# Altium footprint library LKS034DO_FOC_Motor_05201.PcbLib: 29 footprints (part 2 of 2)
Each footprint in its own frame and in the unit in brackets; x right, y up, seen from the top. Pads: shape width x height; smd on the part's side, far side on the other; paste and mask are expansions set on the pad; w line width, h text height; cw(c..) or ccw(c..) is an arc to the next point about the centre after c.
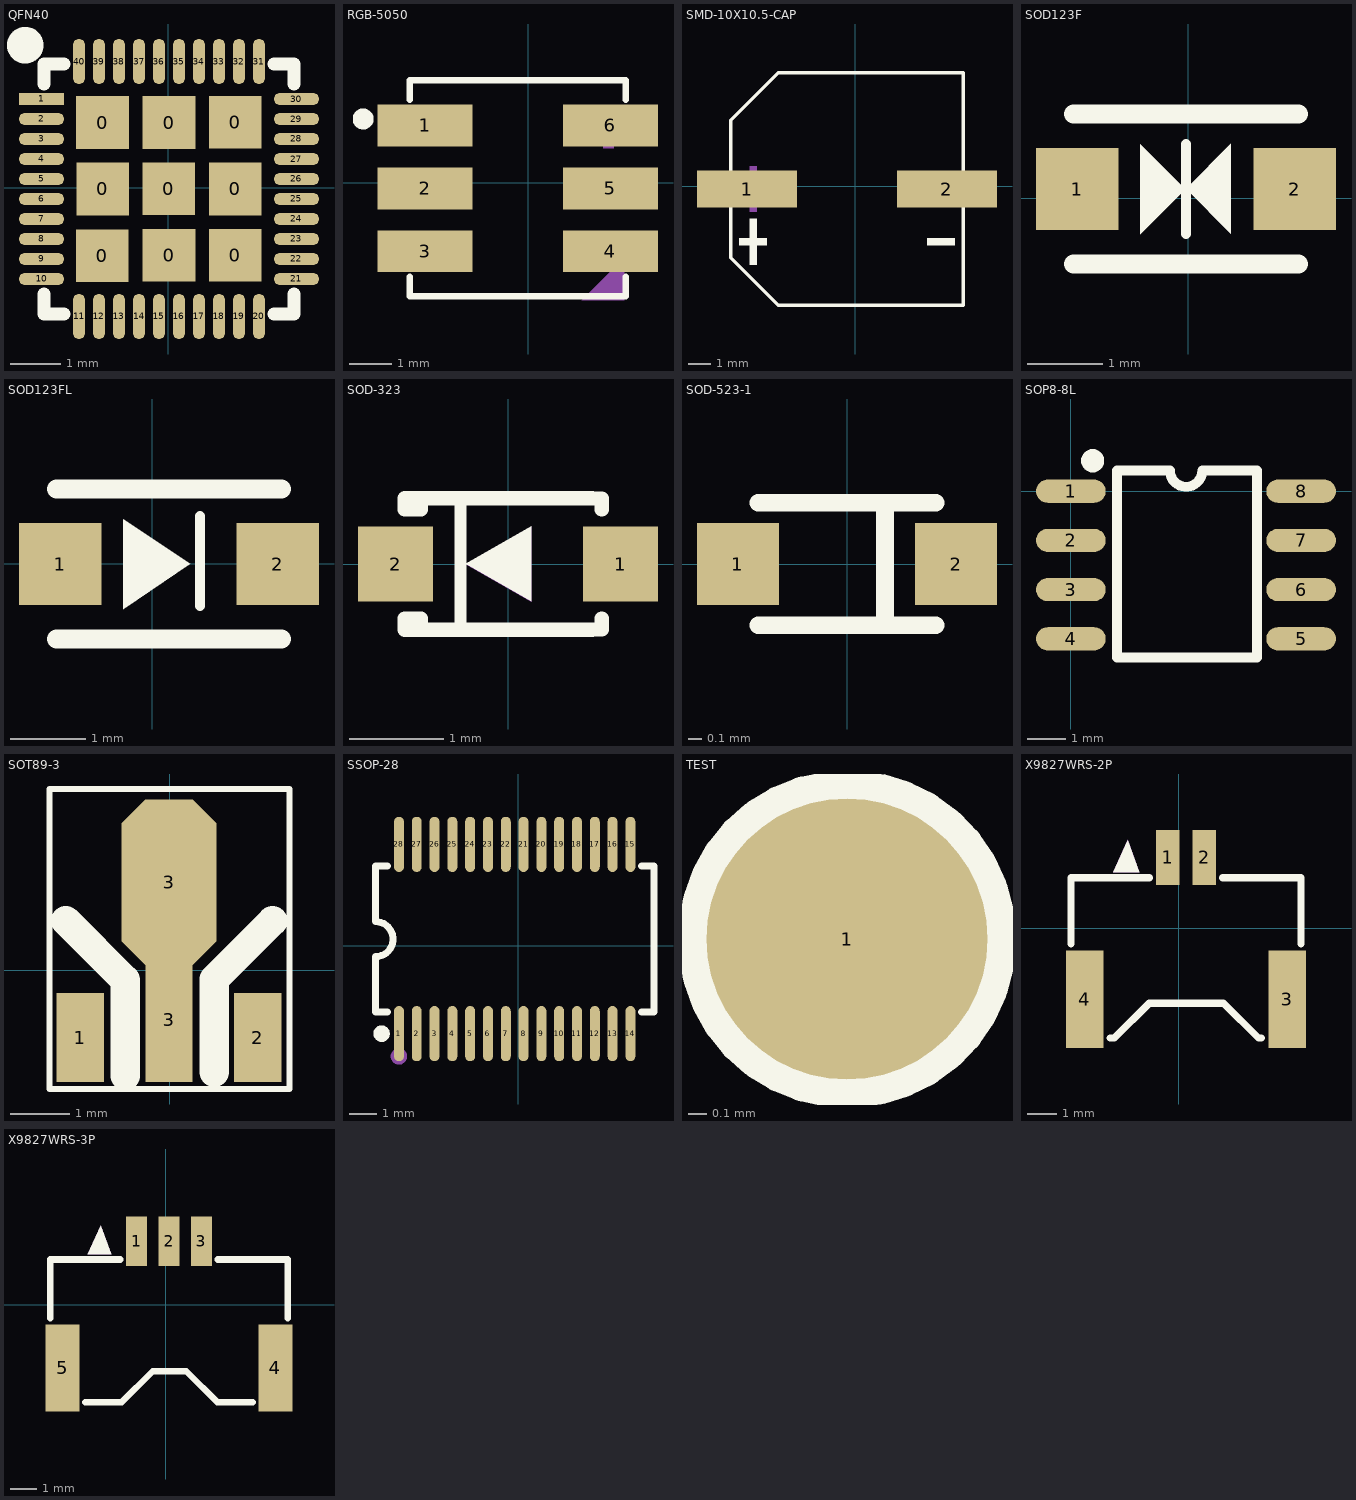
[diagram p1: the footprints below, top view; thin cyan lines are the x and y axes]

## QFN40 [mm]
height 1.75
pads (49):
  rect 1.05x1.05 smd: 0(-1.32,-1.352) 0(-1.32,1.308) 0(-1.32,-0.022) 0(0.01,-0.022) 0(0.01,-1.352) 0(0.01,1.308) 0(1.34,-1.352) 0(1.34,-0.022) 0(1.34,1.308)
  rect 0.9x0.24 smd: 1(-2.54,1.778)
  oval 0.9x0.24 smd: 2(-2.54,1.378) 3(-2.54,0.978) 4(-2.54,0.578) 5(-2.54,0.178) 6(-2.54,-0.222) 7(-2.54,-0.622) 8(-2.54,-1.022) 9(-2.54,-1.422) 10(-2.54,-1.822) 21(2.56,-1.822) 22(2.56,-1.422) 23(2.56,-1.022) 24(2.56,-0.622) 25(2.56,-0.222) 26(2.56,0.178) 27(2.56,0.578) 28(2.56,0.978) 29(2.56,1.378) 30(2.56,1.778)
  oval 0.24x0.9 smd: 11(-1.79,-2.572) 12(-1.39,-2.572) 13(-0.99,-2.572) 14(-0.59,-2.572) 15(-0.19,-2.572) 16(0.21,-2.572) 17(0.61,-2.572) 18(1.01,-2.572) 19(1.41,-2.572) 20(1.81,-2.572) 31(1.81,2.528) 32(1.41,2.528) 33(1.01,2.528) 34(0.61,2.528) 35(0.21,2.528) 36(-0.19,2.528) 37(-0.59,2.528) 38(-0.99,2.528) 39(-1.39,2.528) 40(-1.79,2.528)
Top Overlay:
  circle w0.508: c-2.866,2.854 r0.112
  lines w0.254: -2.49,-2.122 -2.49,-2.522 -2.09,-2.522 ; -2.49,2.078 -2.49,2.478 -2.09,2.478 ; 2.11,-2.522 2.51,-2.522 2.51,-2.122 ; 2.11,2.478 2.51,2.478 2.51,2.078

## RGB-5050 [mm]
pads (6):
  rect 2.265x1 smd: 1(-2.462,1.373) 2(-2.462,-0.127) 3(-2.462,-1.627) 4(1.954,-1.627) 5(1.954,-0.127) 6(1.954,1.373)
Top Overlay:
  circle w0.25: c-3.937,1.524 r0.125
  lines w0.152: -2.83,-2.238 -2.83,-2.703 2.322,-2.703 2.322,-2.238 ; -2.83,1.984 -2.83,2.449 2.322,2.449 2.322,1.984
Mechanical 6:
  drawing of 77 lines, arcs and shapes, not listed

## SMD-10X10.5-CAP [mm]
pads (2):
  rect 4.5x1.65 smd: 1(-4.881,-0.127) 2(4.119,-0.127)
Top Overlay:
  region: -4.759,-1.466 -4.759,-3.526 -4.449,-3.526 -4.449,-1.466
  region: -5.222,-2.341 -5.222,-2.65 -3.986,-2.65 -3.986,-2.341
  region: 4.46,-2.341 4.46,-2.65 3.224,-2.65 3.224,-2.341
  lines w0.152: -5.607,-0.979 -5.607,-3.217 -3.471,-5.353 4.845,-5.353 4.845,-0.979 ; -5.607,0.725 -5.607,2.963 -3.471,5.099 4.845,5.099 4.845,0.725
Mechanical 15:
  region: -4.759,0.903 -4.759,-1.157 -4.449,-1.157 -4.449,0.903
  region: -5.222,0.028 -5.222,-0.282 -3.986,-0.282 -3.986,0.028
  region: 4.46,0.028 4.46,-0.282 3.224,-0.282 3.224,0.028

## SOD123F [mm]
pads (2):
  rect 1.1x1.1 smd: 1(-1.482,0.121) 2(1.419,0.121)
Top Overlay:
  region: -0.64,0.716 -0.64,-0.484 -0.04,0.116
  region: 0.568,-0.479 0.568,0.721 -0.032,0.121
  lines w0.13: -0.032,-0.479 -0.032,0.721
  lines w0.254: -1.532,-0.879 1.468,-0.879 ; -1.532,1.121 1.468,1.121

## SOD123FL [mm]
pads (2):
  rect 1.1x1.1 smd: 1(-1.228,-0.006) 2(1.673,-0.006)
Top Overlay:
  region: -0.386,0.589 -0.386,-0.611 0.508,0
  lines w0.13: 0.635,-0.565 0.635,0.635
  lines w0.254: -1.278,-1.006 1.722,-1.006 ; -1.278,0.994 1.722,0.994

## SOD-323 [mm]
height 1.75
pads (2):
  rect 0.8x0.8 smd: 1(1.2,0) 2(-1.2,0)
Top Overlay:
  region: -0.45,0 0.25,0.4 0.25,-0.4
  lines w0.127: -0.508,-0.7 -0.508,0.7
  lines w0.152: -1.014,-0.7 -1.014,-0.58 ; -1.014,0.58 -1.014,0.7 ; -0.927,-0.7 -0.927,-0.58 -1.1,-0.58 -1.1,-0.7 0.9,-0.7 1,-0.7 1,-0.58 ; -0.927,0.7 -0.927,0.58 -1.1,0.58 -1.1,0.7 0.9,0.7 1,0.7 1,0.58
Mechanical 15:
  region: -0.45,0 0.25,0.4 0.25,-0.4
  region: 0.9,0.09 1.5,0.09 1.5,-0.09 0.9,-0.09
  region: 1.11,-0.3 1.11,0.3 1.29,0.3 1.29,-0.3
  region: -1.5,0.09 -0.9,0.09 -0.9,-0.09 -1.5,-0.09

## SOD-523-1 [mm]
height 1.75
pads (2):
  rect 0.6x0.6 smd: 1(-0.8,0) 2(0.8,0)
Top Overlay:
  lines w0.13: -0.65,-0.45 0.65,-0.45 ; -0.65,0.45 0.65,0.45 ; 0.279,-0.444 0.279,0.406

## SOP8-8L [mm]
height 1.75
pads (8):
  oval 1.8x0.6 smd: 1(0,0) 2(0,-1.27) 3(0,-2.54) 4(0,-3.81) 5(5.944,-3.81) 6(5.944,-2.54) 7(5.944,-1.27) 8(5.944,0)
Top Overlay:
  lines w0.254: 1.194,-4.293 4.801,-4.293 4.801,0.508 4.801,0.533 3.392,0.533 cw(c2.973,0.533) 2.555,0.533 1.194,0.533 1.194,-4.293
  lines w0.3: 0.711,0.785 cw(c0.561,0.786) 0.711,0.787

## SOT89-3 [mm]
height 1.75
pads (4):
  rect 0.8x1.5 smd: 1(-1.516,-1.14) 2(1.484,-1.14)
  rect 0.8x2.1 smd: 3(-0.016,-0.84)
  oct 1.6x2.8 smd: 3(-0.016,1.485)
Top Overlay:
  lines w0.1: -2.033,-2.01 2.019,-2.01 2.019,3.06 -2.033,3.06 -2.033,-0.23 -2.033,-2.01
  lines w0.5: -1.761,0.836 -0.756,-0.169 -0.756,-1.783 ; 0.75,-1.723 0.75,-0.154 1.734,0.83

## SSOP-28 [mm]
pads (28):
  oval 0.364x2.015 smd: 1(-4.352,-3.201) 2(-3.702,-3.201) 3(-3.052,-3.201) 4(-2.402,-3.201) 5(-1.752,-3.201) 6(-1.102,-3.201) 7(-0.452,-3.201) 8(0.198,-3.201) 9(0.848,-3.201) 10(1.498,-3.201) 11(2.148,-3.201) 12(2.798,-3.201) 13(3.448,-3.201) 14(4.098,-3.201) 15(4.098,3.709) 16(3.448,3.709) 17(2.798,3.709) 18(2.148,3.709) 19(1.498,3.709) 20(0.848,3.709) 21(0.198,3.709) 22(-0.452,3.709) 23(-1.102,3.709) 24(-1.752,3.709) 25(-2.402,3.709) 26(-3.052,3.709) 27(-3.702,3.709) 28(-4.352,3.709)
Top Overlay:
  circle w0.3: c-4.986,-3.201 r0.15
  lines w0.254: -4.765,-2.413 -5.207,-2.413 -5.207,-0.39 ccw(c-5.207,0.25) -5.207,0.889 -5.207,2.921 -4.765,2.921 ; 4.511,-2.413 4.953,-2.413 4.953,2.921 4.511,2.921
Mechanical 6:
  circle w0.3: c-4.352,-4.031 r0.15

## TEST [mm]
pads (1):
  round 1.5 smd: 1(0,0)
Top Overlay:
  circle w0.203: c0,0 r0.8

## X9827WRS-2P [mm]
pads (4):
  rect 0.8x1.9 smd: 1(-0.371,2.438) 2(0.879,2.438)
  rect 1.3x3.35 smd: 3(3.729,-2.438) 4(-3.221,-2.438)
Top Overlay:
  region: -2.243,1.925 -1.343,1.925 -1.743,3.025
  lines w0.254: -3.696,-0.531 -3.696,1.738 -1.002,1.738 ; -2.341,-3.763 -2.209,-3.763 -1.01,-2.564 1.543,-2.564 2.742,-3.763 2.848,-3.763 ; 1.51,1.738 4.204,1.738 4.204,-0.531
Mechanical 6:
  region: -2.246,1.938 -1.346,1.938 -1.746,3.038

## X9827WRS-3P [mm]
pads (5):
  rect 0.8x1.9 smd: 1(-1.123,2.438) 2(0.127,2.438) 3(1.377,2.438)
  rect 1.3x3.35 smd: 4(4.227,-2.438) 5(-3.973,-2.438)
Top Overlay:
  region: -2.998,1.938 -2.098,1.938 -2.498,3.038
  lines w0.254: -4.448,-0.531 -4.448,1.738 -1.754,1.738 ; -3.093,-3.763 -1.698,-3.763 -0.499,-2.564 0.791,-2.564 1.99,-3.763 2.589,-3.763 3.346,-3.763 ; 2.008,1.738 4.702,1.738 4.702,-0.531
Mechanical 6:
  circle w0.254: c-1.123,3.176 r0.047
  region: -2.998,1.937 -2.098,1.937 -2.498,3.038